# EAGLE library part NRF51822 (library imix)
Nordic Semiconductor Bluetooth module nRF51822.
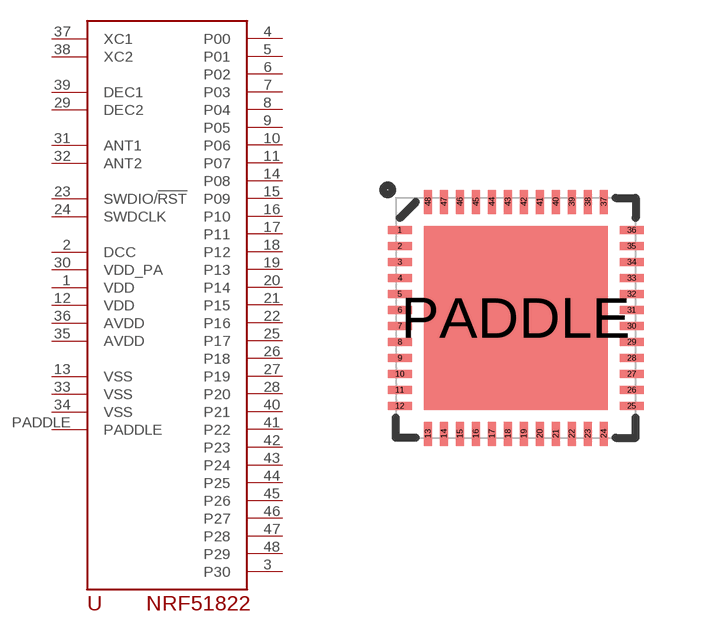
[diagram p11: symbol with the pads of QFN48_6X6; footprint QFN48_6X6]

Designator prefix U

## NRF51822  [QFN48_6X6]
1  VDD
2  DCC
3  P30
4  P00
5  P01
6  P02
7  P03
8  P04
9  P05
10  P06
11  P07
12  VDD
13  VSS
14  P08
15  P09
16  P10
17  P11
18  P12
19  P13
20  P14
21  P15
22  P16
23  SWDIO/!RST
24  SWDCLK
25  P17
26  P18
27  P19
28  P20
29  DEC2
30  VDD_PA
31  ANT1
32  ANT2
33  VSS
34  VSS
35  AVDD
36  AVDD
37  XC1
38  XC2
39  DEC1
40  P21
41  P22
42  P23
43  P24
44  P25
45  P26
46  P27
47  P28
48  P29
PADDLE  PADDLE

## Footprint QFN48_6X6 (pad centres in mm)
6 X 6 mm QFN48 SMD package. Paddle is 4.6 x 4.6 mm, and the pads are 0.4 x 0.2 mm.
smd 0.6 x 0.2: 1 -2.9,2.2; 2 -2.9,1.8; 3 -2.9,1.4; 4 -2.9,1; 5 -2.9,0.6; 6 -2.9,0.2; 7 -2.9,-0.2; 8 -2.9,-0.6; 9 -2.9,-1; 10 -2.9,-1.4; 11 -2.9,-1.8; 12 -2.9,-2.2; 25 2.9,-2.2; 26 2.9,-1.8; 27 2.9,-1.4; 28 2.9,-1; 29 2.9,-0.6; 30 2.9,-0.2; 31 2.9,0.2; 32 2.9,0.6; 33 2.9,1; 34 2.9,1.4; 35 2.9,1.8; 36 2.9,2.2
smd 0.2 x 0.6: 13 -2.2,-2.9; 14 -1.8,-2.9; 15 -1.4,-2.9; 16 -1,-2.9; 17 -0.6,-2.9; 18 -0.2,-2.9; 19 0.2,-2.9; 20 0.6,-2.9; 21 1,-2.9; 22 1.4,-2.9; 23 1.8,-2.9; 24 2.2,-2.9; 37 2.2,2.9; 38 1.8,2.9; 39 1.4,2.9; 40 1,2.9; 41 0.6,2.9; 42 0.2,2.9; 43 -0.2,2.9; 44 -0.6,2.9; 45 -1,2.9; 46 -1.4,2.9; 47 -1.8,2.9; 48 -2.2,2.9
smd 4.6 x 4.6: PADDLE 0,0